# EAGLE library part PROTOCOLUMN-GND (library xess)
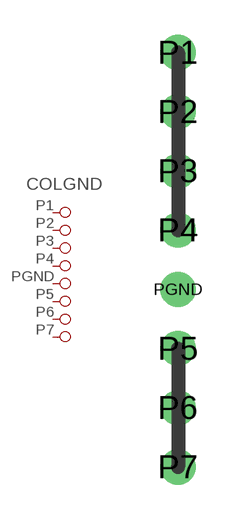
[diagram p157: symbol with the pads of PROTOCOLUMN-GND; footprint PROTOCOLUMN-GND]

Designator prefix COLGND

## PROTOCOLUMN-GND  [PROTOCOLUMN-GND]
P1  1  pas
P2  2  pas
P3  3  pas
P4  4  pas
P5  6  pas
P6  7  pas
P7  8  pas
PGND  5  pas

## Footprint PROTOCOLUMN-GND (pad centres in mm)
drill 1 round: P1 0,10.16; P2 0,7.62; P3 0,5.08; P4 0,2.54; P5 0,-2.54; P6 0,-5.08; P7 0,-7.62; PGND 0,0